# Altium footprint library Connector_PinHeader_2.54mm.PcbLib: 25 footprints (part 1 of 2)
Each footprint in its own frame and in the unit in brackets; x right, y up, seen from the top. Pads: shape width x height; smd on the part's side, far side on the other; paste and mask are expansions set on the pad; w line width, h text height; cw(c..) or ccw(c..) is an arc to the next point about the centre after c.
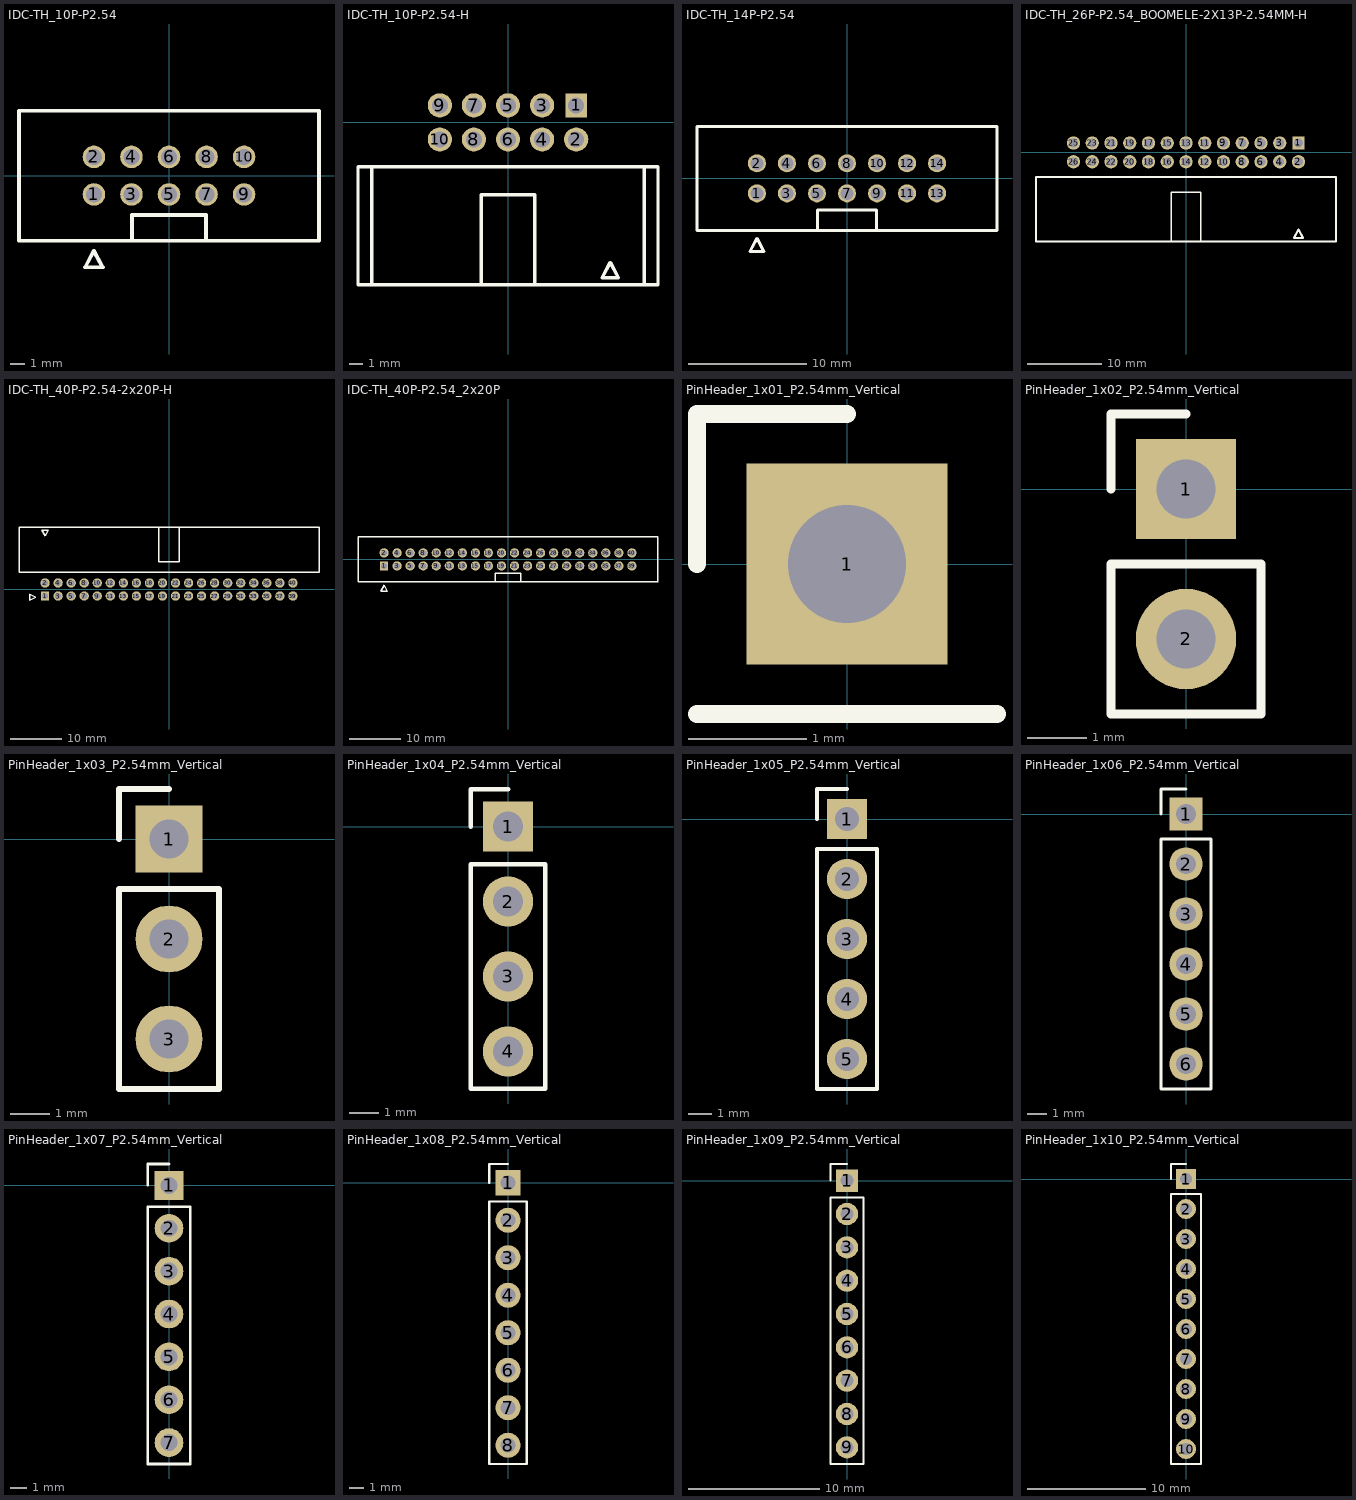
[diagram p0: the footprints below, top view; thin cyan lines are the x and y axes]

## IDC-TH_10P-P2.54 [mil]
pads (10):
  round 60 hole 43.3: 1(-200,-50) 2(-200,50) 3(-100,-50) 4(-100,50) 5(0,-50) 6(0,50) 7(100,-50) 8(100,50) 9(200,-50) 10(200,50)
Top Overlay:
  lines w10: -98.43,-173.23 -98.43,-105 98.43,-105 98.43,-173.23 ; -399.61,-173.23 399.6,-173.23 399.6,173.23 -399.61,173.23 -399.61,-173.23 ; -223.86,-244.32 -176.14,-244.32 -200,-200 -223.86,-244.32
3D body "User Library-IDC Socket Male 10pin Straight THT Goldplated 2_54mm.STEP": height 355.51, standoff -132.68, extent -399.61,-167.32 399.61,181.1

## IDC-TH_10P-P2.54-H [mm]
pads (10):
  rect 1.6x1.8 hole 1.2: 1(5.079,1.27)
  round 1.8 hole 1.2: 2(5.08,-1.27) 3(2.54,1.27) 4(2.54,-1.27) 5(0,1.27) 6(0,-1.27) 7(-2.54,1.27) 8(-2.54,-1.27) 9(-5.08,1.27) 10(-5.08,-1.27)
Top Overlay:
  lines w0.254: -2,-12.096 -2,-5.399 1.984,-5.399 ; 2,-12.096 2,-5.399 ; -10.16,-12.096 10.159,-12.096 ; -10.16,-12.096 -10.16,-3.32 ; -10.16,-12.096 -11.177,-12.096 -11.177,-3.302 -10.16,-3.32 ; -10.16,-3.32 10.159,-3.32 ; 10.159,-12.096 11.176,-12.096 11.176,-3.302 10.159,-3.32 ; 10.159,-12.096 10.159,-3.32 ; 7.012,-11.576 8.225,-11.576 7.619,-10.451 7.012,-11.576
3D body "P1.stp": height 9.1, standoff -3.5, extent -11.19,-12.23 11.19,1.63

## IDC-TH_14P-P2.54 [mil]
pads (14):
  round 60 hole 43.3: 1(-300,-50) 2(-300,50) 3(-200,-50) 4(-200,50) 5(-100,-50) 6(-100,50) 7(0,-50) 8(0,50) 9(100,-50) 10(100,50) 11(200,-50) 12(200,50) 13(300,-50) 14(300,50)
Top Overlay:
  lines w10: -98.43,-173.23 -98.43,-105 98.43,-105 98.43,-173.23 ; -499.61,-173.23 499.61,-173.23 499.61,173.23 -499.61,173.23 -499.61,-173.23 ; -323.86,-244.32 -276.14,-244.32 -300,-200 -323.86,-244.32
3D body "IDC-TH_14P-P2.54-V-R2-C7-S2.54.stp": height 361.02, standoff -118.11, extent -500,-170.27 500,178.15

## IDC-TH_26P-P2.54_BOOMELE-2X13P-2.54MM-H [mm]
pads (26):
  rect 1.6x1.8 hole 1.2: 1(15.239,1.27)
  round 1.8 hole 1.2: 2(15.24,-1.27) 3(12.7,1.27) 4(12.7,-1.27) 5(10.16,1.27) 6(10.16,-1.27) 7(7.62,1.27) 8(7.62,-1.27) 9(5.08,1.27) 10(5.08,-1.27) 11(2.54,1.27) 12(2.54,-1.27) 13(0,1.27) 14(0,-1.27) 15(-2.54,1.27) 16(-2.54,-1.27) 17(-5.08,1.27) 18(-5.08,-1.27) 19(-7.62,1.27) 20(-7.62,-1.27) 21(-10.16,1.27) 22(-10.16,-1.27) 23(-12.7,1.27) 24(-12.7,-1.27) 25(-15.24,1.27) 26(-15.24,-1.27)
Top Overlay:
  lines w0.254: -2,-12.096 -2,-5.399 1.984,-5.399 ; 2,-12.096 2,-5.399 ; -20.32,-12.096 20.32,-12.096 20.32,-3.32 -20.32,-3.32 -20.32,-12.096 ; 14.632,-11.576 15.239,-10.451 15.845,-11.576 14.632,-11.576
3D body "CN1.stp": height 9.1, standoff -3, extent -20.319,-11.745 20.319,1.544

## IDC-TH_40P-P2.54-2x20P-H [mm]
pads (40):
  rect 1.6x1.8 hole 1.2: 1(-24.129,-1.27)
  round 1.8 hole 1.2: 2(-24.13,1.27) 3(-21.59,-1.27) 4(-21.59,1.27) 5(-19.05,-1.27) 6(-19.05,1.27) 7(-16.51,-1.27) 8(-16.51,1.27) 9(-13.97,-1.27) 10(-13.97,1.27) 11(-11.43,-1.27) 12(-11.43,1.27) 13(-8.89,-1.27) 14(-8.89,1.27) 15(-6.35,-1.27) 16(-6.35,1.27) 17(-3.81,-1.27) 18(-3.81,1.27) 19(-1.27,-1.27) 20(-1.27,1.27) 21(1.27,-1.27) 22(1.27,1.27) 23(3.81,-1.27) 24(3.81,1.27) 25(6.35,-1.27) 26(6.35,1.27) 27(8.89,-1.27) 28(8.89,1.27) 29(11.43,-1.27) 30(11.43,1.27) 31(13.97,-1.27) 32(13.97,1.27) 33(16.51,-1.27) 34(16.51,1.27) 35(19.05,-1.27) 36(19.05,1.27) 37(21.59,-1.27) 38(21.59,1.27) 39(24.13,-1.27) 40(24.13,1.27)
Top Overlay:
  lines w0.254: -2,5.399 -2,12.096 ; -1.984,5.399 2,5.399 2,12.096 ; -29.21,3.32 29.21,3.32 29.21,12.096 -29.21,12.096 -29.21,3.32 ; -27.076,-2.106 -25.951,-1.5 -27.076,-0.894 -27.076,-2.106 ; -24.735,11.576 -24.129,10.451 -23.522,11.576 -24.735,11.576
3D body "CN1.stp": height 8.95, standoff -3.2, extent -29.211,-1.59 29.21,12.39

## IDC-TH_40P-P2.54_2x20P [mm]
pads (40):
  rect 1.6x1.8 hole 1.2: 1(-24.129,-1.27)
  round 1.8 hole 1.2: 2(-24.13,1.27) 3(-21.59,-1.27) 4(-21.59,1.27) 5(-19.05,-1.27) 6(-19.05,1.27) 7(-16.51,-1.27) 8(-16.51,1.27) 9(-13.97,-1.27) 10(-13.97,1.27) 11(-11.43,-1.27) 12(-11.43,1.27) 13(-8.89,-1.27) 14(-8.89,1.27) 15(-6.35,-1.27) 16(-6.35,1.27) 17(-3.81,-1.27) 18(-3.81,1.27) 19(-1.27,-1.27) 20(-1.27,1.27) 21(1.27,-1.27) 22(1.27,1.27) 23(3.81,-1.27) 24(3.81,1.27) 25(6.35,-1.27) 26(6.35,1.27) 27(8.89,-1.27) 28(8.89,1.27) 29(11.43,-1.27) 30(11.43,1.27) 31(13.97,-1.27) 32(13.97,1.27) 33(16.51,-1.27) 34(16.51,1.27) 35(19.05,-1.27) 36(19.05,1.27) 37(21.59,-1.27) 38(21.59,1.27) 39(24.13,-1.27) 40(24.13,1.27)
Top Overlay:
  lines w0.254: -29.21,-4.4 29.21,-4.4 ; -29.2,-4.4 -29.2,4.4 29.2,4.4 29.2,-4.4 ; -2.5,-4.4 -2.5,-2.667 2.5,-2.667 2.5,-4.4 ; -24.736,-6.206 -23.524,-6.206 -24.13,-5.08 -24.736,-6.206
3D body "CN1.stp": height 8.67, standoff -3.5, extent -29.223,-4.412 29.197,4.438

## PinHeader_1x01_P2.54mm_Vertical [mm]
pads (1):
  rect 1.7x1.7 hole 1: 1(0,0)
Top Overlay:
  lines w0.152: -1.27,-1.27 1.27,-1.27 ; -1.27,0 -1.27,1.27 0,1.27
3D body "PinHeader_1x01_P2.54mm_Vertical.step": height 8.64, standoff -2.9, extent -1.27,-1.27 1.27,1.27

## PinHeader_1x02_P2.54mm_Vertical [mm]
pads (2):
  rect 1.7x1.7 hole 1: 1(0,0)
  round 1.7 hole 1: 2(0,-2.54)
Top Overlay:
  lines w0.152: -1.27,0 -1.27,1.27 0,1.27 ; -1.27,-3.81 1.27,-3.81 1.27,-1.27 -1.27,-1.27 -1.27,-3.81
3D body "PinHeader_1x02_P2.54mm_Vertical.step": height 8.54, standoff -3, extent -1.27,-3.81 1.27,1.27

## PinHeader_1x03_P2.54mm_Vertical [mm]
pads (3):
  rect 1.7x1.7 hole 1: 1(0,0)
  round 1.7 hole 1: 2(0,-2.54) 3(0,-5.08)
Top Overlay:
  lines w0.152: -1.27,0 -1.27,1.27 0,1.27 ; -1.27,-6.35 -1.27,-1.27 1.27,-1.27 1.27,-6.35 -1.27,-6.35
3D body "PinHeader_1x03_P2.54mm_Vertical.step": height 8.54, standoff -3, extent -1.27,-6.35 1.27,1.27

## PinHeader_1x04_P2.54mm_Vertical [mm]
pads (4):
  rect 1.7x1.7 hole 1: 1(0,0)
  round 1.7 hole 1: 2(0,-2.54) 3(0,-5.08) 4(0,-7.62)
Top Overlay:
  lines w0.152: -1.27,0 -1.27,1.27 0,1.27 ; -1.27,-1.27 1.27,-1.27 ; -1.27,-1.27 1.27,-1.27 ; -1.27,-1.27 -1.27,-8.89 1.27,-8.89 1.27,-1.27
3D body "PinHeader_1x04_P2.54mm_Vertical.step": height 8.64, standoff -2.9, extent -1.27,-8.89 1.27,1.27

## PinHeader_1x05_P2.54mm_Vertical [mm]
pads (5):
  rect 1.7x1.7 hole 1: 1(0,0)
  round 1.7 hole 1: 2(0,-2.54) 3(0,-5.08) 4(0,-7.62) 5(0,-10.16)
Top Overlay:
  lines w0.152: -1.27,0 -1.27,1.27 0,1.27 ; -1.27,-11.43 1.27,-11.43 1.27,-1.27 -1.27,-1.27 -1.27,-11.43
3D body "PinHeader_1x05_P2.54mm_Vertical.step": height 8.54, standoff -3, extent -1.27,-11.43 1.27,1.27

## PinHeader_1x06_P2.54mm_Vertical [mm]
pads (6):
  rect 1.7x1.7 hole 1: 1(0,0)
  round 1.7 hole 1: 2(0,-2.54) 3(0,-5.08) 4(0,-7.62) 5(0,-10.16) 6(0,-12.7)
Top Overlay:
  lines w0.152: -1.27,0 -1.27,1.27 0,1.27 ; -1.27,-13.97 -1.27,-1.27 1.27,-1.27 1.27,-13.97 -1.27,-13.97
3D body "PinHeader_1x06_P2.54mm_Vertical.step": height 8.54, standoff -3, extent -1.27,-13.97 1.27,1.27

## PinHeader_1x07_P2.54mm_Vertical [mm]
pads (7):
  rect 1.7x1.7 hole 1: 1(0,0)
  round 1.7 hole 1: 2(0,-2.54) 3(0,-5.08) 4(0,-7.62) 5(0,-10.16) 6(0,-12.7) 7(0,-15.24)
Top Overlay:
  lines w0.152: -1.27,0 -1.27,1.27 0,1.27 ; -1.27,-16.51 -1.27,-1.27 1.27,-1.27 1.27,-16.51 -1.27,-16.51
3D body "PinHeader_1x07_P2.54mm_Vertical.step": height 8.54, standoff -3, extent -1.27,-16.51 1.27,1.27

## PinHeader_1x08_P2.54mm_Vertical [mm]
pads (8):
  rect 1.7x1.7 hole 1: 1(0,0)
  round 1.7 hole 1: 2(0,-2.54) 3(0,-5.08) 4(0,-7.62) 5(0,-10.16) 6(0,-12.7) 7(0,-15.24) 8(0,-17.78)
Top Overlay:
  lines w0.152: -1.27,0 -1.27,1.27 0,1.27 ; -1.27,-19.05 1.27,-19.05 1.27,-1.27 -1.27,-1.27 -1.27,-19.05
3D body "PinHeader_1x08_P2.54mm_Vertical.step": height 8.54, standoff -3, extent -1.27,-19.05 1.27,1.27

## PinHeader_1x09_P2.54mm_Vertical [mm]
pads (9):
  rect 1.7x1.7 hole 1: 1(0,0)
  round 1.7 hole 1: 2(0,-2.54) 3(0,-5.08) 4(0,-7.62) 5(0,-10.16) 6(0,-12.7) 7(0,-15.24) 8(0,-17.78) 9(0,-20.32)
Top Overlay:
  lines w0.152: -1.27,0 -1.27,1.27 0,1.27 ; -1.27,-21.59 1.27,-21.59 1.27,-1.27 -1.27,-1.27 -1.27,-21.59
3D body "PinHeader_1x09_P2.54mm_Vertical.step": height 8.54, standoff -3, extent -1.27,-21.59 1.27,1.27

## PinHeader_1x10_P2.54mm_Vertical [mm]
pads (10):
  rect 1.7x1.7 hole 1: 1(0,0)
  round 1.7 hole 1: 2(0,-2.54) 3(0,-5.08) 4(0,-7.62) 5(0,-10.16) 6(0,-12.7) 7(0,-15.24) 8(0,-17.78) 9(0,-20.32) 10(0,-22.86)
Top Overlay:
  lines w0.152: -1.27,0 -1.27,1.27 0,1.27 ; -1.27,-24.13 -1.27,-1.27 1.27,-1.27 1.27,-24.13 -1.27,-24.13
3D body "PinHeader_1x10_P2.54mm_Vertical.step": height 8.54, standoff -3, extent -1.27,-24.13 1.27,1.27